# Altium integrated library INA219.IntLib: 2 symbols
Pins are listed as number, name and electrical type; pins without a type are passive.

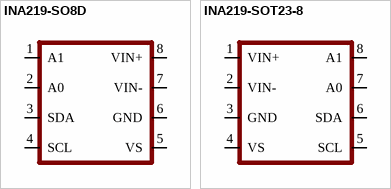
[diagram p0: symbols INA219-SO8D to INA219-SOT23-8]

## INA219-SO8D
designator IC?, comment INA219   Bi-Directional CURRENT/POWER MONITOR with I2Câ„¢ Interface   http://www.ti.com/lit/ds/symlink/ina219.pdf  (value not drawn)
footprint SO08
pins: 1 A1, 2 A0, 3 SDA, 4 SCL, 5 VS (power), 6 GND (power), 7 VIN-, 8 VIN+

## INA219-SOT23-8
designator ?, comment INA219   Bi-Directional CURRENT/POWER MONITOR with I2Câ„¢ Interface   http://www.ti.com/lit/ds/symlink/ina219.pdf  (value not drawn)
footprint SOT23-8
pins: 1 VIN+, 2 VIN-, 3 GND (power), 4 VS (power), 5 SCL, 6 SDA, 7 A0, 8 A1